# Altium footprint library DB9F.PcbLib: 1 footprints
Each footprint in its own frame and in the unit in brackets; x right, y up, seen from the top. Pads: shape width x height; smd on the part's side, far side on the other; paste and mask are expansions set on the pad; w line width, h text height; cw(c..) or ccw(c..) is an arc to the next point about the centre after c.
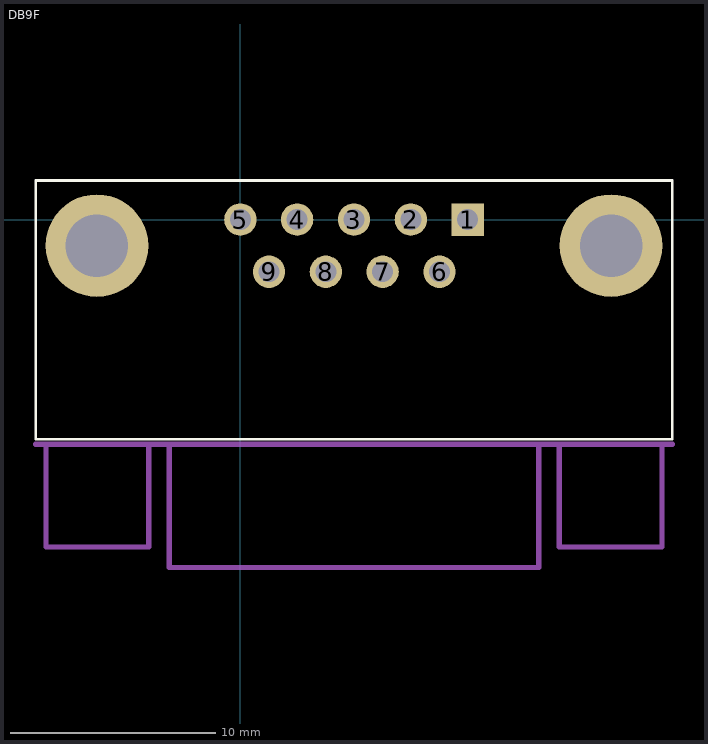
[diagram p0: the footprint, top view; thin cyan lines are the x and y axes]

## DB9F [mil]
pads (11):
  rect 62x62 hole 40: 1(436,0)
  round 62 hole 40: 2(327,0) 3(218,0) 4(109,0) 5(0,0) 6(382,-100) 7(273,-100) 8(164,-100) 9(55,-100)
  round 196.85 hole 120: ""(-275,-50) ""(711,-50)
Top Overlay:
  lines w5: -392.24,-421.06 828.24,-421.06 828.24,75 -392.24,75 -392.24,-421.06
Mechanical 1:
  lines w10: -392.24,-431.06 828.24,-431.06 ; -372.55,-431.06 -372.55,-627.91 -175.7,-627.91 -175.7,-431.06 ; -136.33,-431.06 -136.33,-667.28 572.33,-667.28 572.33,-431.06 ; 611.7,-431.06 611.7,-627.91 808.55,-627.91 808.55,-431.06
3D body: height 531.94, standoff -87.06, extent -391.5,-665 821.5,86